# EAGLE library part 1X12 (library LARS_409_CONNECTORS)
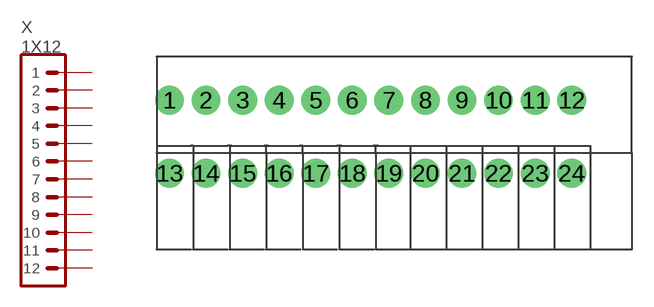
[diagram p11: symbol with the pads of DG141R-2.54-12P; footprint DG141R-2.54-12P]

Designator prefix X

## 1X12  [DG141R-2.54-12P]
1  1  pas
2  2  pas
3  3  pas
4  4  pas
5  5  pas
6  6  pas
7  7  pas
8  8  pas
9  9  pas
10  10  pas
11  11  pas
12  12  pas
13  1  pas
14  2  pas
15  3  pas
16  4  pas
17  5  pas
18  6  pas
19  7  pas
20  8  pas
21  9  pas
22  10  pas
23  11  pas
24  12  pas

## Footprint DG141R-2.54-12P (pad centres in mm)
drill 1.1 pad 2: 1 -15.61,3.68; 2 -13.07,3.68; 3 -10.53,3.68; 4 -7.99,3.68; 5 -5.45,3.68; 6 -2.91,3.68; 7 -0.37,3.68; 8 2.17,3.68; 9 4.71,3.68; 10 7.25,3.68; 11 9.79,3.68; 12 12.33,3.68; 13 -15.61,-1.4; 14 -13.07,-1.4; 15 -10.53,-1.4; 16 -7.99,-1.4; 17 -5.45,-1.4; 18 -2.91,-1.4; 19 -0.37,-1.4; 20 2.17,-1.4; 21 4.71,-1.4; 22 7.25,-1.4; 23 9.79,-1.4; 24 12.33,-1.4